# Altium footprint library TEST.PcbLib: 20 footprints (part 2 of 2)
Each footprint in its own frame and in the unit in brackets; x right, y up, seen from the top. Pads: shape width x height; smd on the part's side, far side on the other; paste and mask are expansions set on the pad; w line width, h text height; cw(c..) or ccw(c..) is an arc to the next point about the centre after c.
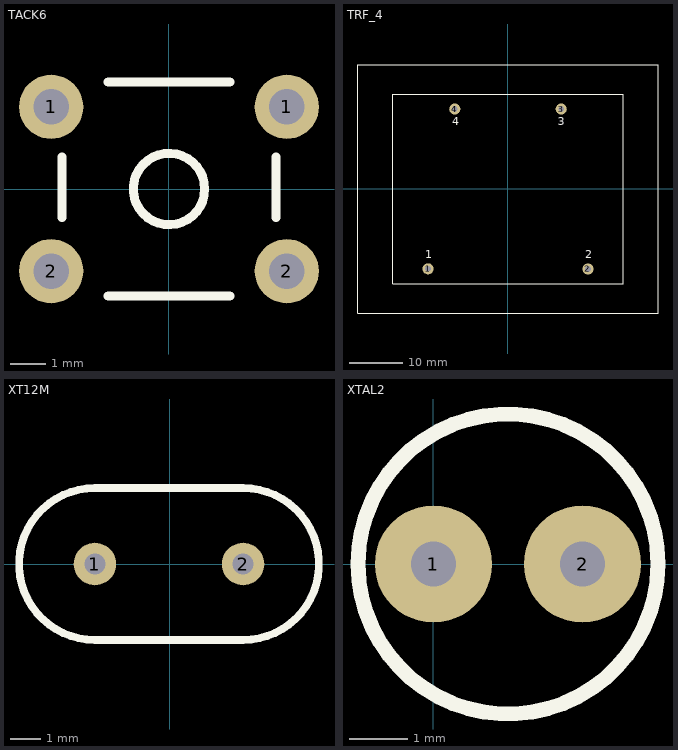
[diagram p1: the footprints below, top view; thin cyan lines are the x and y axes]

## TACK6 [mm]
height 4.96
pads (4):
  round 1.8 hole 1: 1(-3.3,2.3) 1(3.3,2.3) 2(-3.3,-2.3) 2(3.3,-2.3)
Top Overlay:
  circle w0.254: c0,0 r1
  lines w0.254: -3,-0.8 -3,0.9 ; -1.7,-3 1.7,-3 ; -1.7,3 1.7,3 ; 3,-0.8 3,0.9

## TRF_4 [mil]
pads (4):
  round 82 hole 42: 1(-590.83,-590) 2(590.83,-590.83) 3(393.33,590.83) 4(-393.33,590.83)
Top Overlay:
  lines w8: -1108.33,-916.67 -1108.33,916.67 1108.33,916.67 1108.33,-916.67 -1108.33,-916.67 ; -850,-700 850,-700 850,700 -850,700 -850,-700
  text "3" at 369.17,470 h59.06
  text "4" at -410.83,470 h59.06
  text "2" at 569.17,-510 h59.06
  text "1" at -610.83,-510 h59.06

## XT12M [mm]
pads (2):
  round 1.4 hole 0.7: 1(-2.467,0) 2(2.413,0)
Top Overlay:
  lines w0.254: -2.467,-2.5 cw(c-2.467,0) -2.467,2.5 2.413,2.5 cw(c2.413,0) 2.413,-2.5 -2.467,-2.5

## XTAL2 [mm]
height 4.96
pads (2):
  round 2 hole 0.762: 1(0,0) 2(2.54,0)
Top Overlay:
  circle w0.254: c1.27,0 r2.556